# Altium footprint library 01x01-smd-pad-6mmx4mm.PcbLib: 1 footprints
Each footprint in its own frame and in the unit in brackets; x right, y up, seen from the top. Pads: shape width x height; smd on the part's side, far side on the other; paste and mask are expansions set on the pad; w line width, h text height; cw(c..) or ccw(c..) is an arc to the next point about the centre after c.
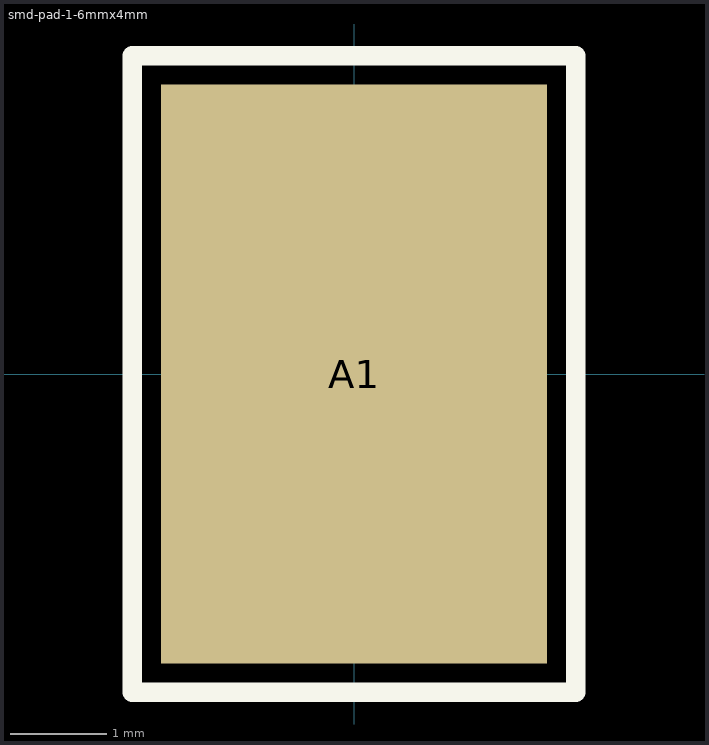
[diagram p0: the footprint, top view; thin cyan lines are the x and y axes]

## smd-pad-1-6mmx4mm [mm]
pads (1):
  rect 4x6 smd: A1(0,0)
Top Overlay:
  lines w0.2: -2.3,-3.3 2.3,-3.3 2.3,3.3 -2.3,3.3 -2.3,-3.3